# Altium footprint library switch.PcbLib: 5 footprints
Each footprint in its own frame and in the unit in brackets; x right, y up, seen from the top. Pads: shape width x height; smd on the part's side, far side on the other; paste and mask are expansions set on the pad; w line width, h text height; cw(c..) or ccw(c..) is an arc to the next point about the centre after c.
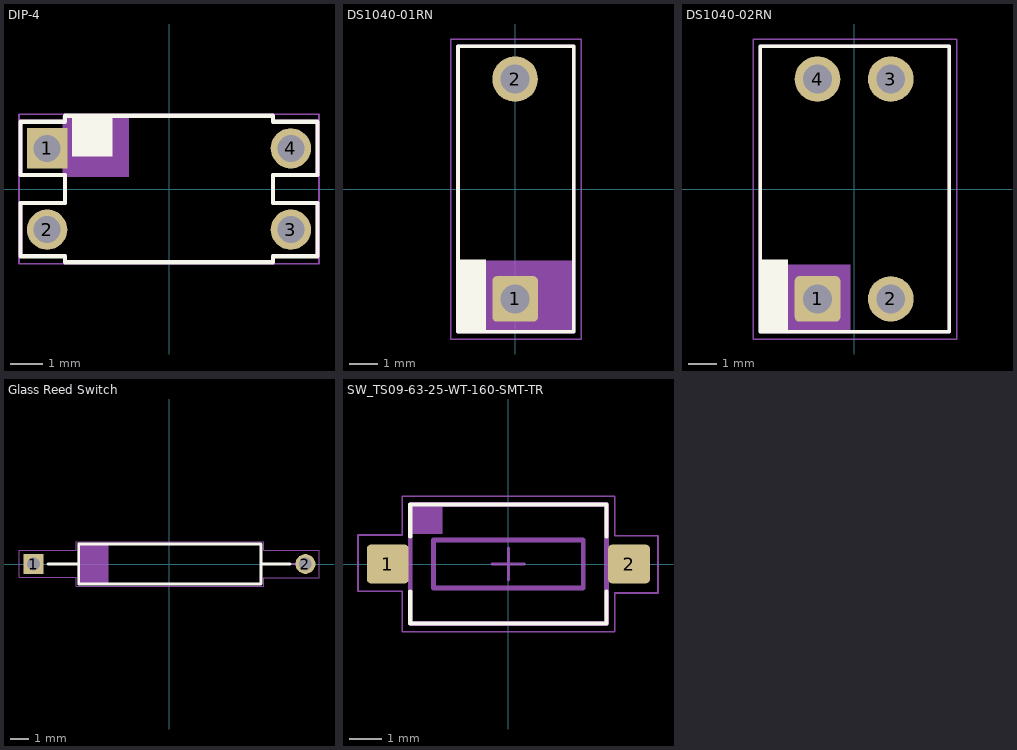
[diagram p0: the footprints below, top view; thin cyan lines are the x and y axes]

## DIP-4 [mm]
pads (4):
  rect 1.26x1.26 hole 0.84: 1(-3.81,1.27)
  round 1.26 hole 0.84: 2(-3.81,-1.27) 3(3.81,-1.27) 4(3.81,1.27)
Top Overlay:
  rectangle: -3.04,1.01 -1.77,2.29
  lines w0.127: -3.251,-2.29 3.25,-2.29 ; -3.251,-2.289 -3.251,-2.102 -4.64,-2.102 -4.64,-0.44 -3.25,-0.44 -3.25,0.44 -4.64,0.44 -4.64,2.102 -3.251,2.102 -3.251,2.289 ; -3.25,2.29 3.251,2.29 ; 3.251,-2.289 3.251,-2.102 4.64,-2.102 4.64,-0.44 3.25,-0.44 3.25,0.44 4.64,0.44 4.64,2.102 3.251,2.102 3.251,2.289
Top Assembly:
  rectangle: -3.325,0.375 -1.25,2.285
  lines w0.127: -3.253,-2.286 3.248,-2.286 ; -3.253,-2.285 -3.253,-2.098 -4.642,-2.098 -4.642,-0.436 -3.252,-0.436 -3.252,0.444 -4.642,0.444 -4.642,2.106 -3.253,2.106 -3.253,2.293 3.248,2.294 3.248,2.106 4.638,2.106 4.638,0.444 3.248,0.444 3.248,-0.436 4.638,-0.436 4.638,-2.098 3.248,-2.098 3.248,-2.285
Top Courtyard:
  lines w0.05: -4.69,-2.34 4.69,-2.34 4.69,2.34 -4.69,2.34 -4.69,-2.34
3D body "PC817-B--3DModel-STEP-56544.STEP": height 4.8, standoff -3.2, extent -3.94,-2.27 3.98,2.31

## DS1040-01RN [mm]
height 7
pads (2):
  rrect20% 1.58x1.58 hole 1: 1(0,-3.81)
  round 1.58 hole 1: 2(0,3.81)
Top Overlay:
  region: -1.016,-4.953 -1.016,-2.438 -2.032,-2.438 -2.032,-4.953
  lines w0.127: -1.98,-4.95 2.032,-4.95 2.032,4.95 -1.98,4.95 -1.98,-4.95
Bottom Dimensions:
  text ".Designator" at -1.9,5.425 h1
Top Assembly:
  rectangle: -1.985,-4.92 2.05,-2.475
  lines w0.127: -1.98,-4.95 2.032,-4.95 2.032,4.95 -1.98,4.95 -1.98,-4.95
Top Courtyard:
  lines w0.05: -2.23,-5.2 2.286,-5.2 2.286,5.2 -2.23,5.2 -2.23,-5.2
3D body "DS1040-01 (DIP_switch).stp": height 6.83, standoff -3.82, extent -1.968,-4.95 2.032,4.95

## DS1040-02RN [mm]
height 7
pads (4):
  rrect20% 1.58x1.58 hole 1: 1(-1.27,-3.81)
  round 1.58 hole 1: 2(1.27,-3.81) 3(1.27,3.81) 4(-1.27,3.81)
Top Overlay:
  region: -2.286,-4.953 -2.286,-2.438 -3.302,-2.438 -3.302,-4.953
  lines w0.127: -3.25,-4.95 -3.25,4.95 3.302,4.95 3.302,-4.95 -3.25,-4.95
Bottom Dimensions:
  text ".Designator" at -1.8,5.55 h1
Top Assembly:
  rectangle: -3.235,-4.92 -0.125,-2.625
  lines w0.127: -3.25,-4.95 -3.25,4.95 3.302,4.95 3.302,-4.95 -3.25,-4.95
Top Courtyard:
  lines w0.05: -3.5,-5.2 -3.5,5.2 3.556,5.2 3.556,-5.2 -3.5,-5.2
3D body "DS1040-02 (DIP_switch).stp": height 6.83, standoff -3.82, extent -3.27,-4.95 3.27,4.95

## Glass Reed Switch [mm] "Reed Switches 10x2mm"
pads (2):
  rect 1.1x1.1 hole 0.7: 1(-7.5,0)
  round 1.1 hole 0.7: 2(7.5,0)
Top Overlay:
  lines w0.15: -6.7,0 -5,0 ; 6.65,0 5.05,0 ; -5,0 -5,-1.1 5.05,-1.1 5.05,0 ; -5,0 -5,1.1 5.05,1.1 5.05,0
Top Assembly:
  rectangle: -4.985,-1.1 -3.375,1.11
  lines w0.127: -6.7,0 -5,0 ; 6.65,0 5.05,0 7,0 ; -5,0 -5,-1.1 5.05,-1.1 5.05,1.1 -5,1.1 -5,0
Top Courtyard:
  lines w0.05: -8.3,-0.725 -5.137,-0.725 -5.137,-1.225 5.201,-1.225 5.201,-0.75 8.25,-0.75 8.25,0.75 5.19,0.75 5.19,1.225 -5.128,1.225 -5.128,0.75 -8.3,0.75 -8.3,-0.725
3D body "Glass Reed.STEP": height 4.21, standoff -2.51, extent -7.75,-1.15 7.8,1.15

## SW_TS09-63-25-WT-160-SMT-TR [mm]
height 2.5
pads (2):
  rrect20% 1.3x1.2 smd: 1(-3.75,0) 2(3.75,0)
Top Overlay:
  lines w0.127: -3.05,-0.85 -3.05,-1.85 3.05,-1.85 3.05,-0.85 ; -3.05,0.85 -3.05,1.85 3.05,1.85 3.05,0.85
Top Designator:
  text ".Designator" at -2.874,2.425 h0.6
Top Assembly:
  rectangle: -3,0.925 -2.05,1.81
  lines w0.15: -3.05,-0.325 -3.925,-0.325 -3.925,0.325 -3.05,0.325 ; 3.05,-0.325 3.925,-0.325 3.925,0.325 3.05,0.325 ; -3.05,-1.85 3.05,-1.85 3.05,1.85 -3.05,1.85 -3.05,-1.85 ; -2.325,-0.75 2.325,-0.75 2.325,0.75 -2.325,0.75 -2.325,-0.75
Top Courtyard:
  lines w0.05: -4.675,-0.85 -4.675,0.9 -3.3,0.9 -3.3,2.1 3.3,2.1 3.3,0.875 4.65,0.875 4.65,-0.9 3.3,-0.9 3.3,-2.1 -3.3,-2.1 -3.3,-0.85 -4.675,-0.85
  lines w0.1: -0.5,0 0.5,0 ; 0,-0.5 0,0.5
3D body "step_temp.STEP": height 2.6, standoff 0.05, extent -4.05,-1.85 4.05,1.85